# Altium footprint library teensy3.2.pcblib: 1 footprints
Each footprint in its own frame and in the unit in brackets; x right, y up, seen from the top. Pads: shape width x height; smd on the part's side, far side on the other; paste and mask are expansions set on the pad; w line width, h text height; cw(c..) or ccw(c..) is an arc to the next point about the centre after c.
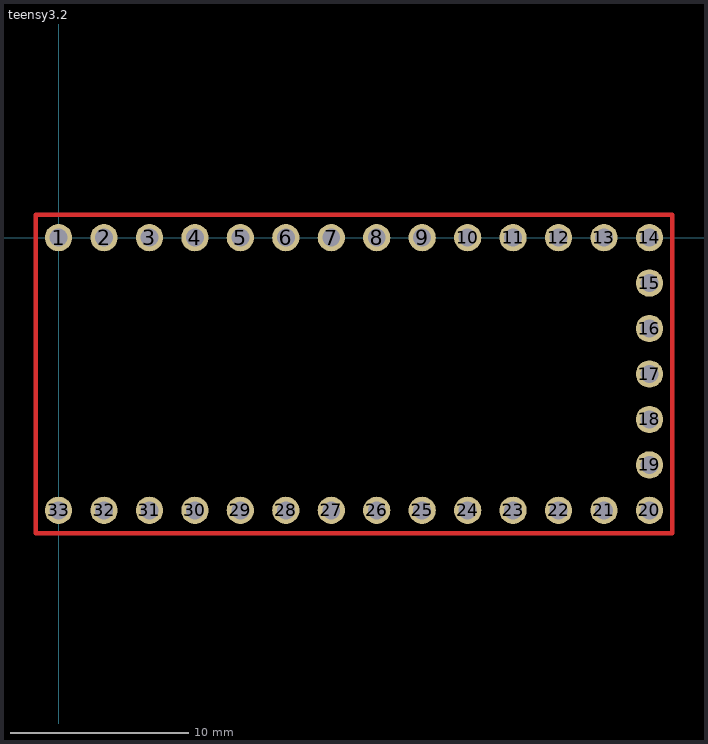
[diagram p0: the footprint, top view; thin cyan lines are the x and y axes]

## teensy3.2 [mil]
pads (33):
  round 60 hole 39.37: 1(0,0) 2(100,0) 3(200,0) 4(300,0) 5(400,0) 6(500,0) 7(600,0) 8(700,0) 9(800,0) 10(900,0) 11(1000,0) 12(1100,0) 13(1200,0) 14(1300,0) 15(1300,-100) 16(1300,-200) 17(1300,-300) 18(1300,-400) 19(1300,-500) 20(1300,-600) 21(1200,-600) 22(1100,-600) 23(1000,-600) 24(900,-600) 25(800,-600) 26(700,-600) 27(600,-600) 28(500,-600) 29(400,-600) 30(300,-600) 31(200,-600) 32(100,-600) 33(0,-600)
Top Layer:
  lines w10: -50,-650 1350,-650 1350,50 0,50 -50,50 -50,-650
  text "USB" at -110,-390 h60